# EAGLE library part MC9S08SH32-28 (library freescale-hcs08)
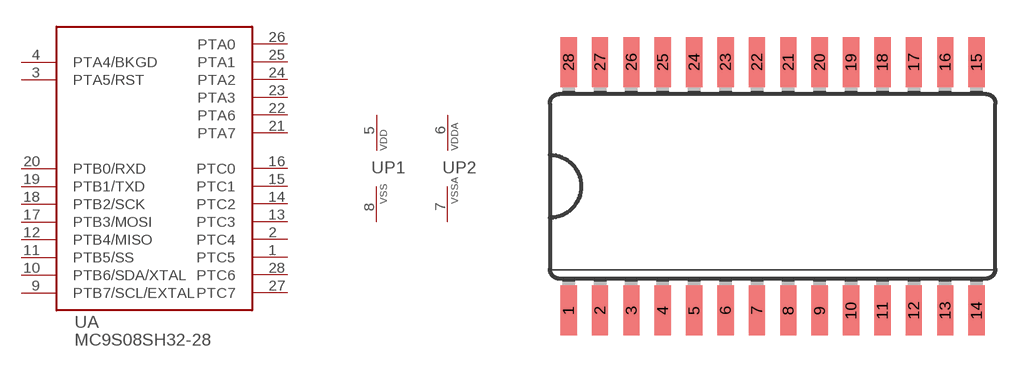
[diagram p14: symbol with the pads of SO28L; footprint SO28L]

Designator prefix -; gates A=MC9S08SH32-28 P1=VDD-VSS P2=VDDA-VSSA

## MC9S08SH32-28  [SO28L]
1  A:PTC5
2  A:PTC4
3  A:PTA5/RST
4  A:PTA4/BKGD
5  P1:VDD  pwr
6  P2:VDDA  pwr
7  P2:VSSA  pwr
8  P1:VSS  pwr
9  A:PTB7/SCL/EXTAL
10  A:PTB6/SDA/XTAL
11  A:PTB5/SS
12  A:PTB4/MISO
13  A:PTC3
14  A:PTC2
15  A:PTC1
16  A:PTC0
17  A:PTB3/MOSI
18  A:PTB2/SCK
19  A:PTB1/TXD
20  A:PTB0/RXD
21  A:PTA7
22  A:PTA6
23  A:PTA3
24  A:PTA2
25  A:PTA1
26  A:PTA0
27  A:PTC7
28  A:PTC6

## Footprint SO28L (pad centres in mm)
Small Outline Package MAX3221-MAX3243.pdf; SO28W
smd 0.66 x 2.032: 1 -8.255,-5.029; 2 -6.985,-5.029; 3 -5.715,-5.029; 4 -4.445,-5.029; 5 -3.175,-5.029; 6 -1.905,-5.029; 7 -0.635,-5.029; 8 0.635,-5.029; 9 1.905,-5.029; 10 3.175,-5.029; 11 4.445,-5.029; 12 5.715,-5.029; 13 6.985,-5.029; 14 8.255,-5.029; 15 8.255,5.029; 16 6.985,5.029; 17 5.715,5.029; 18 4.445,5.029; 19 3.175,5.029; 20 1.905,5.029; 21 0.635,5.029; 22 -0.635,5.029; 23 -1.905,5.029; 24 -3.175,5.029; 25 -4.445,5.029; 26 -5.715,5.029; 27 -6.985,5.029; 28 -8.255,5.029